# Altium schematic symbol library MCP4822T-ESN.SchLib: 2 symbols
Pins are listed as number, name and electrical type; pins without a type are passive.

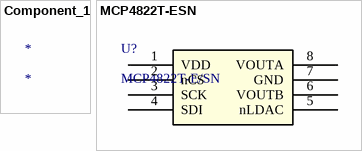
[diagram p0: symbols Component_1 to MCP4822T-ESN]

## Component_1
designator *

## MCP4822T-ESN
designator U?, comment MCP4822T-E/SN
12 Bit Digital to Analog Converter 2 8-SOIC; Mfr_Name: Microchip; Copyright: Copyright (C) 2024 Ultra Librarian. All rights reserved.; Manufacturer_Part_Number: MCP4822T-E/SN; RefDes: RefDes; Type: DEV
footprint MSOP8_MC_MCH
pins: 1 VDD, 2 nCS, 3 SCK, 4 SDI, 5 nLDAC, 6 VOUTB, 7 GND, 8 VOUTA